# EAGLE library part 43045-2422 (library SamacSys_Parts)
Micro-Fit 3.0 Vertical Header, 3.00mm Pitch, Dual Row, Circuits, with PCB Polarizing Peg, Tin, Glow-Wire Capable, Black Source: Datasheet <https://componentsearchengine.com/Datasheets/1/43045-2422.pdf>
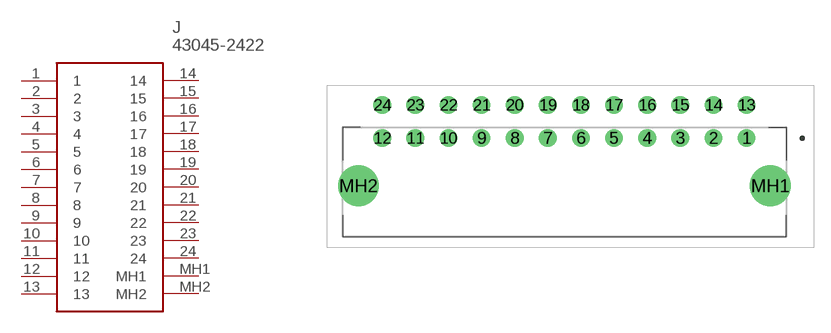
[diagram p6: symbol with the pads of 430452422; footprint 430452422]

Designator prefix J

## 43045-2422 (DESCRIPTION: Micro-Fit 3.0 Vertical Header, 3.00mm Pitch, Dual Row, Circuits, with PCB Polarizing Peg, Tin, Glow-Wire Capable, Black; HEIGHT: 8.77mm; MANUFACTURER_NAME: Molex; MANUFACTURER_PART_NUMBER: 43045-2422; MOUSER_PART_NUMBER: 538-43045-2422; MOUSER_PRICE-STOCK: https://www.mouser.com/Search/Refine.aspx?Keyword=538-43045-2422)  [430452422]
1  1
2  2
3  3
4  4
5  5
6  6
7  7
8  8
9  9
10  10
11  11
12  12
13  13
14  14
15  15
16  16
17  17
18  18
19  19
20  20
21  21
22  22
23  23
24  24
MH1  MH1
MH2  MH2

## Footprint 430452422 (pad centres in mm)
43045-2422-3
drill 1.07 pad 1.605: 1 0,0; 2 -3,0; 3 -6,0; 4 -9,0; 5 -12,0; 6 -15,0; 7 -18,0; 8 -21,0; 9 -24,0; 10 -27,0; 11 -30,0; 12 -33,0; 13 0,3; 14 -3,3; 15 -6,3; 16 -9,3; 17 -12,3; 18 -15,3; 19 -18,3; 20 -21,3; 21 -24,3; 22 -27,3; 23 -30,3; 24 -33,3
drill 2.46 pad 3.69: MH1 2.15,-4.32; MH2 -35.15,-4.32